# Altium schematic symbol library Mozgunov.SchLib: 10 symbols
Pins are listed as number, name and electrical type; pins without a type are passive.

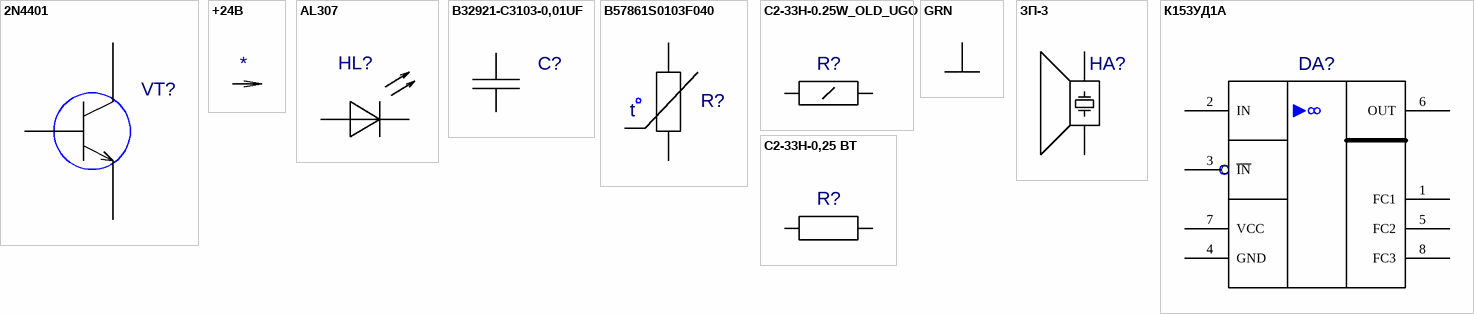
[diagram p0: symbols 2N4401 to С2-33Н-0,25 ВТ]

## 2N4401
designator VT?  (value not drawn)
Value: *
footprint TO-92-1
pins: 1 E, 2 B, 3 K

## +24B
designator PWR?  (value not drawn)
Value: *
pins: 1 +24B (power)

## AL307
designator HL?  (value not drawn)
Value: *
footprint AL307
pins: 1 I/O1, 2 I/O2

## B32921-C3103-0,01UF
designator C?  (value not drawn)
Value: *
footprint B32921(13X4)
pins: 1, 2

## B57861S0103F040
designator R?  (value not drawn)
Value: *
footprint B57861
pins: 1, 2
text: t

## C2-33H-0.25W_OLD_UGO
designator R?  (value not drawn)
Value: *
footprint C2-33H-0.25W
pins: 1, 2

## GRN
designator PWR?  (value not drawn)
Value: *
pins: 1 (power)

## ЗП-3
designator HA?  (value not drawn)
Value: *
footprint ЗП-1
pins: 1, 2

## К153УД1А
designator DA?  (value not drawn)
Value: *
footprint 301.8-2
pins: 1 FC1, 2 IN, 3 ~{IN}, 4 GND, 5 FC2, 6 OUT, 7 VCC, 8 FC3

## С2-33Н-0,25 ВТ
designator R?  (value not drawn)
Value: *
footprint C2-33H-0.25W
pins: 1 I/O0, 2 I/O1